# Altium footprint library CAPC0201X012.PcbLib: 3 footprints
Each footprint in its own frame and in the unit in brackets; x right, y up, seen from the top. Pads: shape width x height; smd on the part's side, far side on the other; paste and mask are expansions set on the pad; w line width, h text height; cw(c..) or ccw(c..) is an arc to the next point about the centre after c.
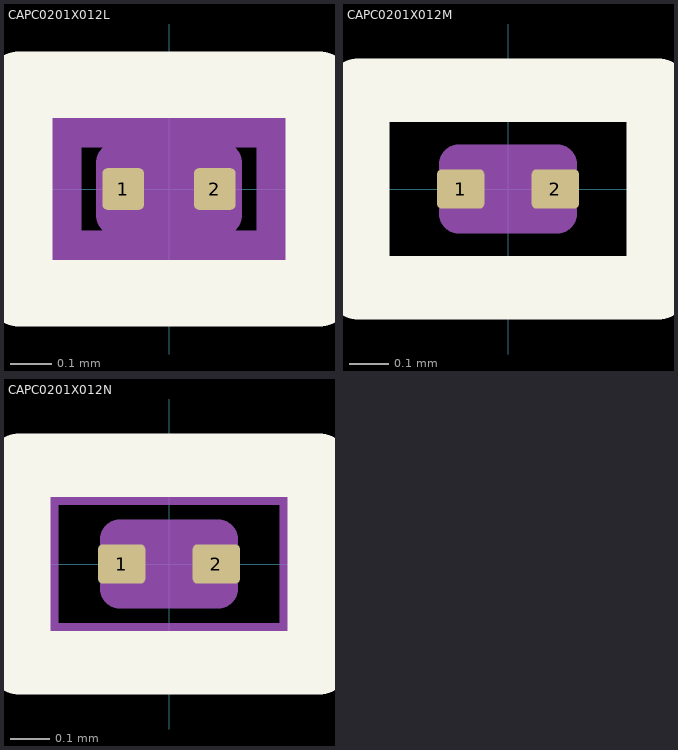
[diagram p0: the footprints below, top view; thin cyan lines are the x and y axes]

## CAPC0201X012L [mm] "Capacitors, Chip, Non-polarized"
height 0.138
pads (2):
  rrect25% 0.1x0.1 smd: 1(-0.11,0) 2(0.11,0)
Top Overlay:
  lines w0.16: -0.36,-0.25 0.36,-0.25 0.36,0.25 -0.36,0.25 -0.36,-0.25
Top Component Center:
  lines w0.1: -0.025,0 0.025,0 ; 0,-0.025 0,0.025
Top Courtyard:
  lines w0.1: -0.26,-0.15 0.26,-0.15 0.26,0.15 -0.26,0.15 -0.26,-0.15
Top Assembly:
  lines w0.1: -0.125,-0.062 0.125,-0.062 0.125,0.062 -0.125,0.062 -0.125,-0.062
  text ".Designator" at 0,0 h1
3D body "CAPC0201X012L.STEP": height 0.12, standoff 0, extent -0.125,-0.062 0.125,0.062

## CAPC0201X012M [mm] "Capacitors, Chip, Non-polarized"
height 0.138
pads (2):
  rrect25% 0.12x0.1 smd: 1(-0.12,0) 2(0.12,0)
Top Overlay:
  lines w0.16: -0.38,-0.25 0.38,-0.25 0.38,0.25 -0.38,0.25 -0.38,-0.25
Top Component Center:
  lines w0.1: -0.025,0 0.025,0 ; 0,-0.025 0,0.025
Top Courtyard:
  lines w0.1: -0.38,-0.25 0.38,-0.25 0.38,0.25 -0.38,0.25 -0.38,-0.25
Top Assembly:
  lines w0.1: -0.125,-0.062 0.125,-0.062 0.125,0.062 -0.125,0.062 -0.125,-0.062
  text ".Designator" at 0,0 h1
3D body "CAPC0201X012M.STEP": height 0.12, standoff 0, extent -0.125,-0.062 0.125,0.062

## CAPC0201X012N [mm] "Capacitors, Chip, Non-polarized"
height 0.138
pads (2):
  rrect25% 0.12x0.1 smd: 1(-0.12,0) 2(0.12,0)
Top Overlay:
  lines w0.16: -0.38,-0.25 0.38,-0.25 0.38,0.25 -0.38,0.25 -0.38,-0.25
Top Component Center:
  lines w0.1: -0.025,0 0.025,0 ; 0,-0.025 0,0.025
Top Courtyard:
  lines w0.1: -0.33,-0.2 0.33,-0.2 0.33,0.2 -0.33,0.2 -0.33,-0.2
Top Assembly:
  lines w0.1: -0.125,-0.062 0.125,-0.062 0.125,0.062 -0.125,0.062 -0.125,-0.062
  text ".Designator" at 0,0 h1
3D body "CAPC0201X012N.STEP": height 0.12, standoff 0, extent -0.125,-0.062 0.125,0.062